# EAGLE library part ACPL-K73L (library avago)
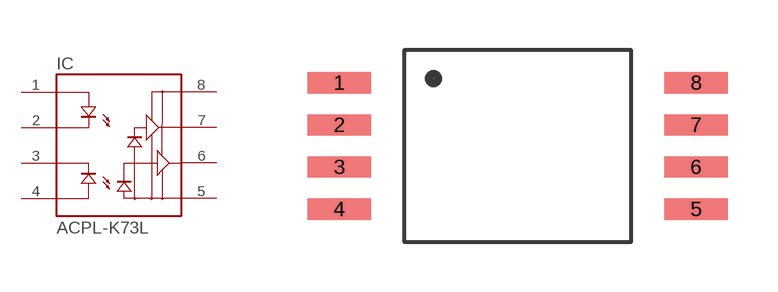
[diagram p1: symbol with the pads of SSO8; footprint SSO8]

Designator prefix IC

## ACPL-K73L  [SSO8]
1  ANODE1  pas
2  CATHODE1  pas
3  CATHODE2  pas
4  ANODE2  pas
5  GND  pas
6  VO2  pas
7  VO1  pas
8  VDD  pas

## Footprint SSO8 (pad centres in mm)
smd 1.905 x 0.64: 1 -5.37,1.905; 2 -5.37,0.635; 3 -5.37,-0.635; 4 -5.37,-1.905; 5 5.37,-1.905; 6 5.37,-0.635; 7 5.37,0.635; 8 5.37,1.905